# Altium footprint library pengyulib.PcbLib: 8 footprints
Each footprint in its own frame and in the unit in brackets; x right, y up, seen from the top. Pads: shape width x height; smd on the part's side, far side on the other; paste and mask are expansions set on the pad; w line width, h text height; cw(c..) or ccw(c..) is an arc to the next point about the centre after c.
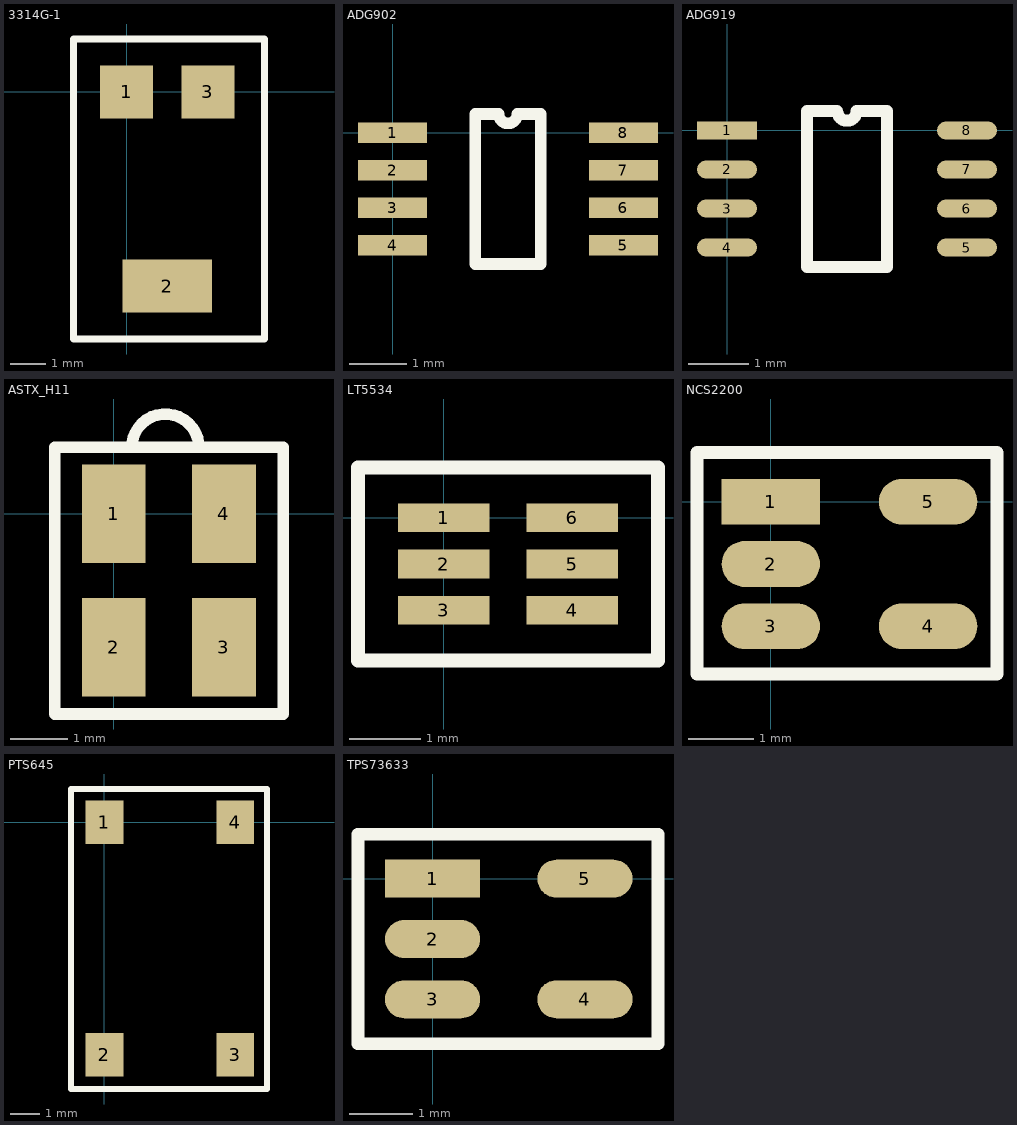
[diagram p0: the footprints below, top view; thin cyan lines are the x and y axes]

## 3314G-1 [mm]
pads (3):
  rect 1.5x1.5 smd: 1(0,0) 3(2.3,0)
  rect 2.541x1.5 smd: 2(1.15,-5.5)
Top Overlay:
  lines w0.2: -1.5,-7 -1.5,1.5 3.9,1.5 3.9,-7 -1.5,-7

## ADG902 [mm]
pads (8):
  rect 1.2x0.35 smd: 1(0,0) 2(0,-0.65) 3(0,-1.3) 4(0,-1.95) 5(4,-1.95) 6(4,-1.3) 7(4,-0.65) 8(4,0)
Top Overlay:
  lines w0.2: 1.435,-2.275 2.565,-2.275 2.565,0.325 2.162,0.325 cw(c2,0.325) 1.837,0.325 1.435,0.325 1.435,-2.275

## ADG919 [mm]
pads (8):
  rect 1x0.3 smd: 1(0,0)
  oval 1x0.3 smd: 2(0,-0.65) 3(0,-1.3) 4(0,-1.95) 5(4,-1.95) 6(4,-1.3) 7(4,-0.65) 8(4,0)
Top Overlay:
  lines w0.2: 1.335,-2.275 2.665,-2.275 2.665,0.325 2.162,0.325 cw(c2,0.325) 1.837,0.325 1.335,0.325 1.335,-2.275

## ASTX_H11 [mm]
pads (4):
  rect 1.1x1.7 smd: 1(0,0) 2(0,-2.3) 3(1.9,-2.3) 4(1.9,0)
Top Overlay:
  lines w0.2: 0.314,1.214 cw(c0.889,1.143) 1.464,1.214 ; 0.375,1.15 2.921,1.15 2.921,-3.45 -1.016,-3.45 -1.016,1.15 1.525,1.15

## LT5534 [mm]
pads (6):
  rect 1.279x0.4 smd: 1(0,0) 2(0,-0.65) 3(0,-1.3) 4(1.8,-1.3) 5(1.8,-0.65) 6(1.8,0)
Top Overlay:
  lines w0.2: -1.2,-2 3,-2 3,0.7 -1.2,0.7 -1.2,-2

## NCS2200 [mm]
pads (5):
  rect 1.5x0.7 smd: 1(0,0)
  oval 1.5x0.7 smd: 2(0,-0.95) 3(0,-1.9) 4(2.4,-1.9) 5(2.4,0)
Top Overlay:
  lines w0.2: -1.125,-2.625 3.45,-2.625 3.45,0.75 -1.125,0.75 -1.125,-2.625

## PTS645 [mm]
pads (4):
  rect 1.3x1.5 smd: 1(0,0) 2(0,-8) 3(4.5,-8) 4(4.5,0)
Top Overlay:
  lines w0.2: -1.143,-9.175 5.588,-9.175 5.588,1.143 3.905,1.143 0.54,1.143 -1.143,1.143 -1.143,-9.175

## TPS73633 [mm]
pads (5):
  rect 1.5x0.6 smd: 1(0,0)
  oval 1.5x0.6 smd: 2(0,-0.95) 3(0,-1.9) 4(2.4,-1.9) 5(2.4,0)
Top Overlay:
  lines w0.2: -1.175,-2.6 -1.175,0.7 3.55,0.7 3.55,-2.6 -1.175,-2.6